# EAGLE library part USB5534B (library Strutz Electronic Industries)
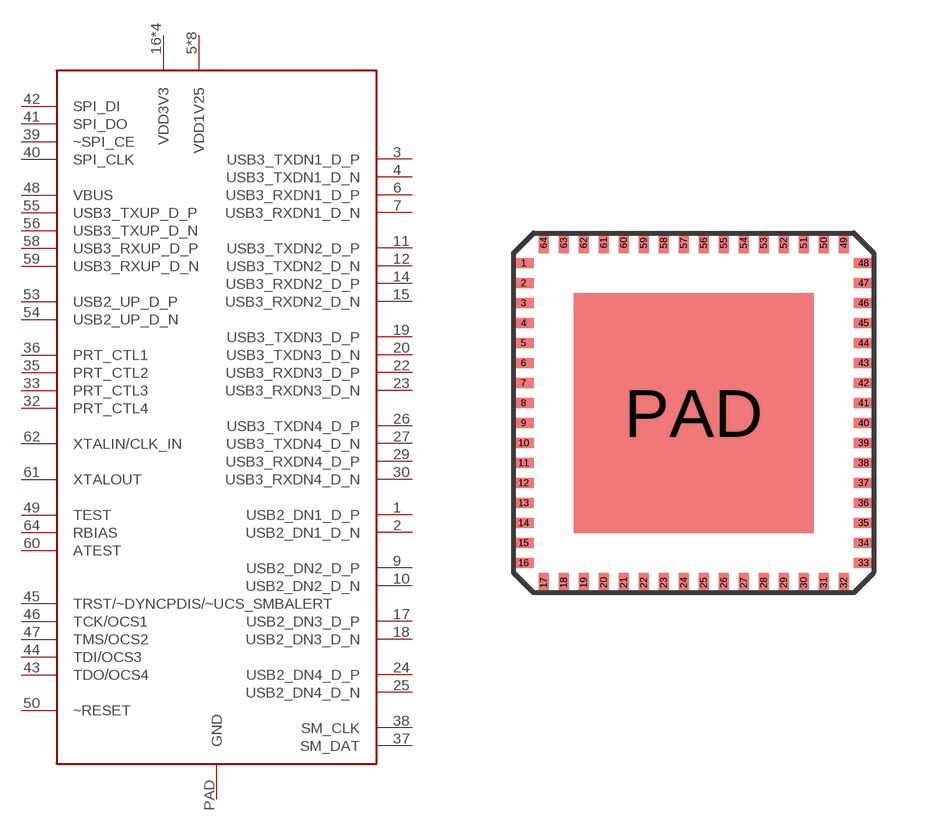
[diagram p47: symbol with the pads of QFN-64; footprint QFN-64]

Designator prefix -

## USB5534B  [QFN-64]
1  USB2_DN1_D_P
2  USB2_DN1_D_N
3  USB3_TXDN1_D_P
4  USB3_TXDN1_D_N
5  VDD1V25
6  USB3_RXDN1_D_P
7  USB3_RXDN1_D_N
8  VDD1V25
9  USB2_DN2_D_P
10  USB2_DN2_D_N
11  USB3_TXDN2_D_P
12  USB3_TXDN2_D_N
13  VDD1V25
14  USB3_RXDN2_D_P
15  USB3_RXDN2_D_N
16  VDD3V3
17  USB2_DN3_D_P
18  USB2_DN3_D_N
19  USB3_TXDN3_D_P
20  USB3_TXDN3_D_N
21  VDD1V25
22  USB3_RXDN3_D_P
23  USB3_RXDN3_D_N
24  USB2_DN4_D_P
25  USB2_DN4_D_N
26  USB3_TXDN4_D_P
27  USB3_TXDN4_D_N
28  VDD1V25
29  USB3_RXDN4_D_P
30  USB3_RXDN4_D_N
31  VDD1V25
32  PRT_CTL4
33  PRT_CTL3
34  VDD3V3
35  PRT_CTL2
36  PRT_CTL1
37  SM_DAT
38  SM_CLK
39  ~SPI_CE
40  SPI_CLK
41  SPI_DO
42  SPI_DI
43  TDO/OCS4
44  TDI/OCS3
45  TRST/~DYNCPDIS/~UCS_SMBALERT
46  TCK/OCS1
47  TMS/OCS2
48  VBUS
49  TEST
50  ~RESET
51  VDD1V25
52  VDD3V3
53  USB2_UP_D_P
54  USB2_UP_D_N
55  USB3_TXUP_D_P
56  USB3_TXUP_D_N
57  VDD1V25
58  USB3_RXUP_D_P
59  USB3_RXUP_D_N
60  ATEST
61  XTALOUT
62  XTALIN/CLK_IN
63  VDD3V3
64  RBIAS
PAD  GND

## Footprint QFN-64 (pad centres in mm)
smd 0.5 x 0.25: 1 -4.25,3.75; 2 -4.25,3.25; 3 -4.25,2.75; 4 -4.25,2.25; 5 -4.25,1.75; 6 -4.25,1.25; 7 -4.25,0.75; 8 -4.25,0.25; 9 -4.25,-0.25; 10 -4.25,-0.75; 11 -4.25,-1.25; 12 -4.25,-1.75; 13 -4.25,-2.25; 14 -4.25,-2.75; 15 -4.25,-3.25; 16 -4.25,-3.75; 33 4.25,-3.75; 34 4.25,-3.25; 35 4.25,-2.75; 36 4.25,-2.25; 37 4.25,-1.75; 38 4.25,-1.25; 39 4.25,-0.75; 40 4.25,-0.25; 41 4.25,0.25; 42 4.25,0.75; 43 4.25,1.25; 44 4.25,1.75; 45 4.25,2.25; 46 4.25,2.75; 47 4.25,3.25; 48 4.25,3.75
smd 0.25 x 0.5: 17 -3.75,-4.25; 18 -3.25,-4.25; 19 -2.75,-4.25; 20 -2.25,-4.25; 21 -1.75,-4.25; 22 -1.25,-4.25; 23 -0.75,-4.25; 24 -0.25,-4.25; 25 0.25,-4.25; 26 0.75,-4.25; 27 1.25,-4.25; 28 1.75,-4.25; 29 2.25,-4.25; 30 2.75,-4.25; 31 3.25,-4.25; 32 3.75,-4.25; 49 3.75,4.25; 50 3.25,4.25; 51 2.75,4.25; 52 2.25,4.25; 53 1.75,4.25; 54 1.25,4.25; 55 0.75,4.25; 56 0.25,4.25; 57 -0.25,4.25; 58 -0.75,4.25; 59 -1.25,4.25; 60 -1.75,4.25; 61 -2.25,4.25; 62 -2.75,4.25; 63 -3.25,4.25; 64 -3.75,4.25
smd 6 x 6: PAD 0,0